# EAGLE library part MPXV7007 (library Stofer)
7Kpa dual port pressure sensor
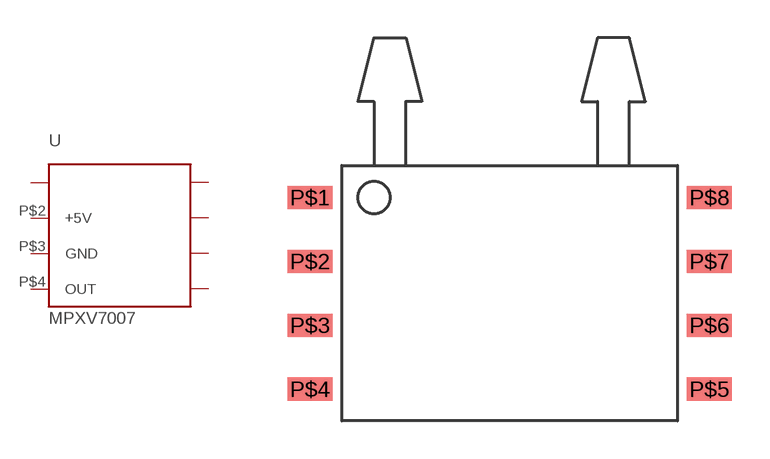
[diagram p4: symbol with the pads of MPXV; footprint MPXV]

Designator prefix -

## MPXV7007  [MPXV]
P$1  P$1  nc
P$2  +5V  pwr
P$3  GND  pwr
P$4  OUT  out
P$5  P$5  nc
P$6  P$6  nc
P$7  P$7  nc
P$8  P$8  nc

## Footprint MPXV (pad centres in mm)
smd 1.778 x 0.914: P$1 0,0; P$2 0,-2.54; P$3 0,-5.08; P$4 0,-7.62; P$5 15.875,-7.62; P$6 15.875,-5.08; P$7 15.875,-2.54; P$8 15.875,0